# Altium schematic symbol library Other-Pogopin.SchLib: 3 symbols
Pins are listed as number, name and electrical type; pins without a type are passive.

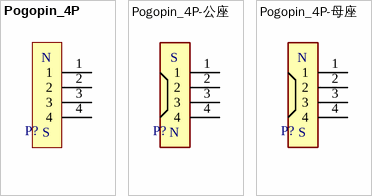
[diagram p0: symbols Pogopin_4P to Pogopin_4P-母座]

## Pogopin_4P
designator P?  (no BOM)
pins: 1, 2, 3, 4
text: N; S

## Pogopin_4P-公座
designator P?  (no BOM)
pins: 1, 2, 3, 4
text: S; N

## Pogopin_4P-母座
designator P?  (no BOM)
pins: 1, 2, 3, 4
text: N; S